# EAGLE library part TLV62095 (library sjg-power)
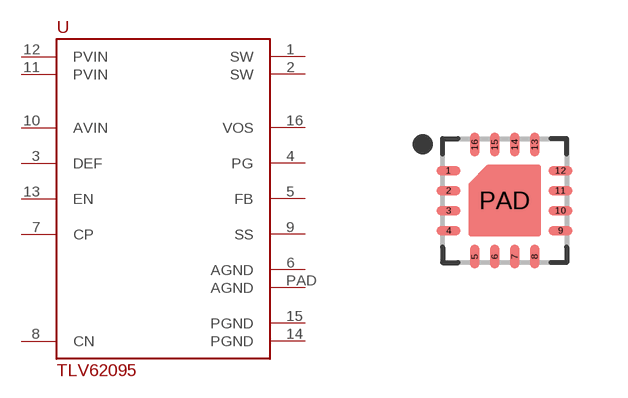
[diagram p6: symbol with the pads of QFN50P310X310X100-16; footprint QFN50P310X310X100-16]

Designator prefix -

## TLV62095  [QFN50P310X310X100-16]
1  SW
2  SW
3  DEF
4  PG
5  FB
6  AGND
7  CP
8  CN
9  SS
10  AVIN
11  PVIN
12  PVIN
13  EN
14  PGND
15  PGND
16  VOS
PAD  AGND

## Footprint QFN50P310X310X100-16 (pad centres in mm)
16-QFN, 0.50 mm pitch, 3.10 X 3.10 X 1.00 mm body 16-pin QFN package with 0.50 mm pitch with body size 3.10 X 3.10 X 1.00 mm
smd 0.6 x 0.24: 1 -1.4,0.75; 2 -1.4,0.25; 3 -1.4,-0.25; 4 -1.4,-0.75; 9 1.4,-0.75; 10 1.4,-0.25; 11 1.4,0.25; 12 1.4,0.75
smd 0.24 x 0.6: 5 -0.75,-1.4; 6 -0.25,-1.4; 7 0.25,-1.4; 8 0.75,-1.4; 13 0.75,1.4; 14 0.25,1.4; 15 -0.25,1.4; 16 -0.75,1.4
smd 1.27 x 0.635: PAD 0,0